# EAGLE library part AD5410 (library custom_components)
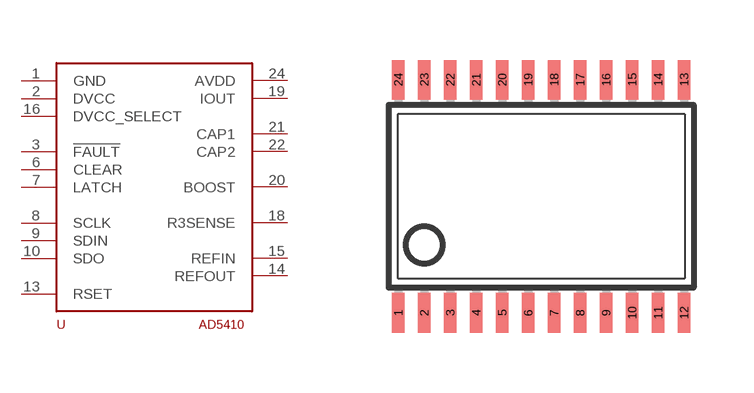
[diagram p1: symbol with the pads of TSSOP24; footprint TSSOP24]

Designator prefix -

## AD5410  [TSSOP24]
1  GND
2  DVCC
3  !FAULT!
6  CLEAR
7  LATCH
8  SCLK
9  SDIN
10  SDO
13  RSET
14  REFOUT
15  REFIN
16  DVCC_SELECT
18  R3SENSE
19  IOUT
20  BOOST
21  CAP1
22  CAP2
24  AVDD

## Footprint TSSOP24 (pad centres in mm)
Thin Shrink Small Outline Plastic 24 MAX3223-MAX3243.pdf
smd 0.305 x 0.991: 1 -3.575,-2.918; 2 -2.925,-2.918; 3 -2.275,-2.918; 4 -1.625,-2.918; 5 -0.975,-2.918; 6 -0.325,-2.918; 7 0.325,-2.918; 8 0.975,-2.918; 9 1.625,-2.918; 10 2.275,-2.918; 11 2.925,-2.918; 12 3.575,-2.918; 13 3.575,2.918; 14 2.925,2.918; 15 2.275,2.918; 16 1.625,2.918; 17 0.975,2.918; 18 0.325,2.918; 19 -0.325,2.918; 20 -0.975,2.918; 21 -1.625,2.918; 22 -2.275,2.918; 23 -2.925,2.918; 24 -3.575,2.918